# Altium footprint library CONN_HDR_2.54MM_ST_SMDE.PcbLib: 38 footprints (part 1 of 3)
Each footprint in its own frame and in the unit in brackets; x right, y up, seen from the top. Pads: shape width x height; smd on the part's side, far side on the other; paste and mask are expansions set on the pad; w line width, h text height; cw(c..) or ccw(c..) is an arc to the next point about the centre after c.
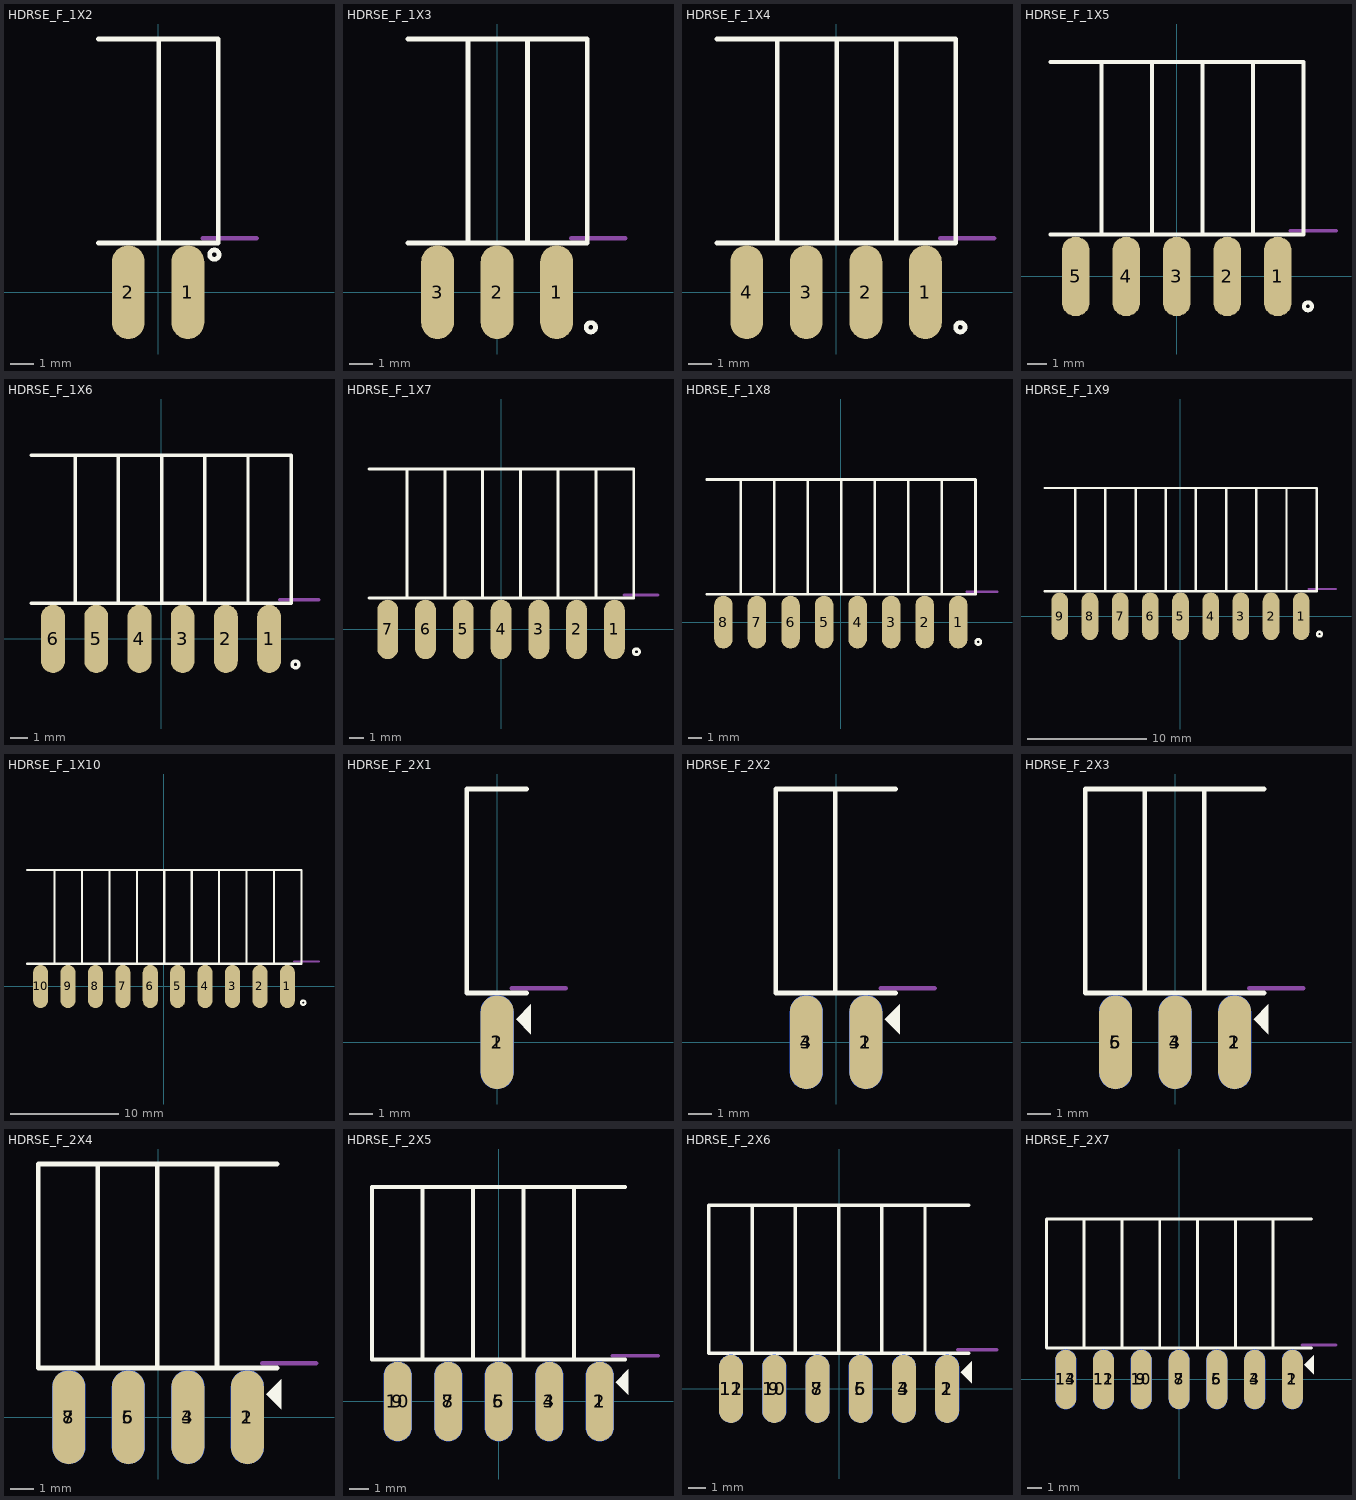
[diagram p0: the footprints below, top view; thin cyan lines are the x and y axes]

## HDRSE_F_1X2 [mm] "Connector; Header; 2 Position, SMD edge"
height 1.8
pads (2):
  oval 1.4x4 smd mask+0.1: 1(1.27,0) 2(-1.27,0)
TopOverlay:
  circle w0.2: c2.4,1.6 r0.2
  lines w0.2: -2.54,2.1 0.03,2.1 0.03,10.8 -2.54,10.8 ; 0,2.1 2.57,2.1 2.57,10.8 0,10.8
Mechanical1:
  lines w0.2: 1.9,2.3 4.2,2.3
  text "Edge of PCB" at 2.2,2.6 h0.4
3D body "PBS-1.stp": height 1.63, standoff -0.91, extent -2.54,-0.91 0,10.74
3D body "PBS-1.stp": height 1.63, standoff -0.91, extent 0,-0.91 2.54,10.74

## HDRSE_F_1X3 [mm] "Connector; Header; 3 Position"
pads (3):
  oval 1.4x4 smd mask+0.1: 1(2.54,0) 2(0,0) 3(-2.54,0)
TopOverlay:
  circle w0.2: c4,-1.5 r0.2
  lines w0.2: -3.81,2.1 -1.24,2.1 -1.24,10.8 -3.81,10.8 ; -1.27,2.1 1.3,2.1 1.3,10.8 -1.27,10.8 ; 1.27,2.1 3.84,2.1 3.84,10.8 1.27,10.8
Mechanical1:
  lines w0.2: 3.17,2.3 5.47,2.3
  text "Edge of PCB" at 3.5,2.5 h0.4
3D body "PBS-1.stp": height 1.63, standoff -0.91, extent -3.81,-0.91 -1.27,10.74
3D body "PBS-1.stp": height 1.63, standoff -0.91, extent -1.27,-0.91 1.27,10.74
3D body "PBS-1.stp": height 1.63, standoff -0.91, extent 1.27,-0.91 3.81,10.74

## HDRSE_F_1X4 [mm] "Connector; Header; 4 Position"
pads (4):
  oval 1.4x4 smd mask+0.1: 1(3.81,0) 2(1.27,0) 3(-1.27,0) 4(-3.81,0)
TopOverlay:
  circle w0.2: c5.3,-1.5 r0.2
  lines w0.2: -5.08,2.1 -2.51,2.1 -2.51,10.8 -5.08,10.8 ; -2.54,2.1 0.03,2.1 0.03,10.8 -2.54,10.8 ; 0,2.1 2.57,2.1 2.57,10.8 0,10.8 ; 2.54,2.1 5.11,2.1 5.11,10.8 2.54,10.8
Mechanical1:
  lines w0.2: 4.44,2.3 6.74,2.3
  text "Edge of PCB" at 4.6,2.6 h0.4
3D body "PBS-1.stp": height 1.63, standoff -0.91, extent -5.08,-0.91 -2.54,10.74
3D body "PBS-1.stp": height 1.63, standoff -0.91, extent -2.54,-0.91 0,10.74
3D body "PBS-1.stp": height 1.63, standoff -0.91, extent 0,-0.91 2.54,10.74
3D body "PBS-1.stp": height 1.63, standoff -0.91, extent 2.54,-0.91 5.08,10.74

## HDRSE_F_1X5 [mm] "Connector; Header; 5 Position"
pads (5):
  oval 1.4x4 smd mask+0.1: 1(5.08,0) 2(2.54,0) 3(0,0) 4(-2.54,0) 5(-5.08,0)
TopOverlay:
  circle w0.2: c6.6,-1.5 r0.2
  lines w0.2: -6.35,2.1 -3.78,2.1 -3.78,10.8 -6.35,10.8 ; -3.81,2.1 -1.24,2.1 -1.24,10.8 -3.81,10.8 ; -1.27,2.1 1.3,2.1 1.3,10.8 -1.27,10.8 ; 1.27,2.1 3.84,2.1 3.84,10.8 1.27,10.8 ; 3.81,2.1 6.38,2.1 6.38,10.8 3.81,10.8
Mechanical1:
  lines w0.2: 5.71,2.3 8.01,2.3
  text "Edge of PCB" at 5.9,2.6 h0.4
3D body "PBS-1.stp": height 1.63, standoff -0.91, extent 3.81,-0.91 6.35,10.74
3D body "PBS-1.stp": height 1.63, standoff -0.91, extent 1.27,-0.91 3.81,10.74
3D body "PBS-1.stp": height 1.63, standoff -0.91, extent -1.27,-0.91 1.27,10.74
3D body "PBS-1.stp": height 1.63, standoff -0.91, extent -3.81,-0.91 -1.27,10.74
3D body "PBS-1.stp": height 1.63, standoff -0.91, extent -6.35,-0.91 -3.81,10.74

## HDRSE_F_1X6 [mm] "Connector; Header; 6 Position"
pads (6):
  oval 1.4x4 smd mask+0.1: 1(6.35,0) 2(3.81,0) 3(1.27,0) 4(-1.27,0) 5(-3.81,0) 6(-6.35,0)
TopOverlay:
  circle w0.2: c7.9,-1.5 r0.2
  lines w0.2: -7.62,2.1 -5.05,2.1 -5.05,10.8 -7.62,10.8 ; -5.08,2.1 -2.51,2.1 -2.51,10.8 -5.08,10.8 ; -2.54,2.1 0.03,2.1 0.03,10.8 -2.54,10.8 ; 0,2.1 2.57,2.1 2.57,10.8 0,10.8 ; 2.54,2.1 5.11,2.1 5.11,10.8 2.54,10.8 ; 5.08,2.1 7.65,2.1 7.65,10.8 5.08,10.8
Mechanical1:
  lines w0.2: 6.98,2.3 9.28,2.3
  text "Edge of PCB" at 7.2,2.6 h0.4
3D body "PBS-1.stp": height 1.63, standoff -0.91, extent -7.62,-0.91 -5.08,10.74
3D body "PBS-1.stp": height 1.63, standoff -0.91, extent -5.08,-0.91 -2.54,10.74
3D body "PBS-1.stp": height 1.63, standoff -0.91, extent -2.54,-0.91 0,10.74
3D body "PBS-1.stp": height 1.63, standoff -0.91, extent 0,-0.91 2.54,10.74
3D body "PBS-1.stp": height 1.63, standoff -0.91, extent 2.54,-0.91 5.08,10.74
3D body "PBS-1.stp": height 1.63, standoff -0.91, extent 5.08,-0.91 7.62,10.74

## HDRSE_F_1X7 [mm] "Connector; Header; 7 Position"
pads (7):
  oval 1.4x4 smd mask+0.1: 1(7.62,0) 2(5.08,0) 3(2.54,0) 4(0,0) 5(-2.54,0) 6(-5.08,0) 7(-7.62,0)
TopOverlay:
  circle w0.2: c9.1,-1.5 r0.2
  lines w0.2: -8.89,2.1 -6.32,2.1 -6.32,10.8 -8.89,10.8 ; -6.35,2.1 -3.78,2.1 -3.78,10.8 -6.35,10.8 ; -3.81,2.1 -1.24,2.1 -1.24,10.8 -3.81,10.8 ; -1.27,2.1 1.3,2.1 1.3,10.8 -1.27,10.8 ; 1.27,2.1 3.84,2.1 3.84,10.8 1.27,10.8 ; 3.81,2.1 6.38,2.1 6.38,10.8 3.81,10.8 ; 6.35,2.1 8.92,2.1 8.92,10.8 6.35,10.8
Mechanical1:
  lines w0.2: 8.25,2.3 10.55,2.3
  text "Edge of PCB" at 8.5,2.6 h0.4
3D body "PBS-1.stp": height 1.63, standoff -0.91, extent -8.89,-0.91 -6.35,10.74
3D body "PBS-1.stp": height 1.63, standoff -0.91, extent -6.35,-0.91 -3.81,10.74
3D body "PBS-1.stp": height 1.63, standoff -0.91, extent -3.81,-0.91 -1.27,10.74
3D body "PBS-1.stp": height 1.63, standoff -0.91, extent -1.27,-0.91 1.27,10.74
3D body "PBS-1.stp": height 1.63, standoff -0.91, extent 1.27,-0.91 3.81,10.74
3D body "PBS-1.stp": height 1.63, standoff -0.91, extent 3.81,-0.91 6.35,10.74
3D body "PBS-1.stp": height 1.63, standoff -0.91, extent 6.35,-0.91 8.89,10.74

## HDRSE_F_1X8 [mm] "Connector; Header; 8 Position"
pads (8):
  oval 1.4x4 smd mask+0.1: 1(8.89,0) 2(6.35,0) 3(3.81,0) 4(1.27,0) 5(-1.27,0) 6(-3.81,0) 7(-6.35,0) 8(-8.89,0)
TopOverlay:
  circle w0.2: c10.4,-1.5 r0.2
  lines w0.2: -10.16,2.1 -7.59,2.1 -7.59,10.8 -10.16,10.8 ; -7.62,2.1 -5.05,2.1 -5.05,10.8 -7.62,10.8 ; -5.08,2.1 -2.51,2.1 -2.51,10.8 -5.08,10.8 ; -2.54,2.1 0.03,2.1 0.03,10.8 -2.54,10.8 ; 0,2.1 2.57,2.1 2.57,10.8 0,10.8 ; 2.54,2.1 5.11,2.1 5.11,10.8 2.54,10.8 ; 5.08,2.1 7.65,2.1 7.65,10.8 5.08,10.8 ; 7.62,2.1 10.19,2.1 10.19,10.8 7.62,10.8
Mechanical1:
  lines w0.2: 9.52,2.3 11.82,2.3
  text "Edge of PCB" at 9.7,2.6 h0.4
3D body "PBS-1.stp": height 1.63, standoff -0.91, extent 7.62,-0.91 10.16,10.74
3D body "PBS-1.stp": height 1.63, standoff -0.91, extent 5.08,-0.91 7.62,10.74
3D body "PBS-1.stp": height 1.63, standoff -0.91, extent 2.54,-0.91 5.08,10.74
3D body "PBS-1.stp": height 1.63, standoff -0.91, extent 0,-0.91 2.54,10.74
3D body "PBS-1.stp": height 1.63, standoff -0.91, extent -2.54,-0.91 0,10.74
3D body "PBS-1.stp": height 1.63, standoff -0.91, extent -5.08,-0.91 -2.54,10.74
3D body "PBS-1.stp": height 1.63, standoff -0.91, extent -7.62,-0.91 -5.08,10.74
3D body "PBS-1.stp": height 1.63, standoff -0.91, extent -10.16,-0.91 -7.62,10.74

## HDRSE_F_1X9 [mm] "Connector; Header; 9 Position"
pads (9):
  oval 1.4x4 smd mask+0.1: 1(10.16,0) 2(7.62,0) 3(5.08,0) 4(2.54,0) 5(0,0) 6(-2.54,0) 7(-5.08,0) 8(-7.62,0) 9(-10.16,0)
TopOverlay:
  circle w0.2: c11.7,-1.5 r0.2
  lines w0.2: -11.43,2.1 -8.86,2.1 -8.86,10.8 -11.43,10.8 ; -8.89,2.1 -6.32,2.1 -6.32,10.8 -8.89,10.8 ; -6.35,2.1 -3.78,2.1 -3.78,10.8 -6.35,10.8 ; -3.81,2.1 -1.24,2.1 -1.24,10.8 -3.81,10.8 ; -1.27,2.1 1.3,2.1 1.3,10.8 -1.27,10.8 ; 1.27,2.1 3.84,2.1 3.84,10.8 1.27,10.8 ; 3.81,2.1 6.38,2.1 6.38,10.8 3.81,10.8 ; 6.35,2.1 8.92,2.1 8.92,10.8 6.35,10.8 ; 8.89,2.1 11.46,2.1 11.46,10.8 8.89,10.8
Mechanical1:
  lines w0.2: 10.79,2.3 13.09,2.3
  text "Edge of PCB" at 11.1,2.6 h0.4
3D body "PBS-1.stp": height 1.63, standoff -0.91, extent -11.43,-0.91 -8.89,10.74
3D body "PBS-1.stp": height 1.63, standoff -0.91, extent -8.89,-0.91 -6.35,10.74
3D body "PBS-1.stp": height 1.63, standoff -0.91, extent -6.35,-0.91 -3.81,10.74
3D body "PBS-1.stp": height 1.63, standoff -0.91, extent -3.81,-0.91 -1.27,10.74
3D body "PBS-1.stp": height 1.63, standoff -0.91, extent -1.27,-0.91 1.27,10.74
3D body "PBS-1.stp": height 1.63, standoff -0.91, extent 1.27,-0.91 3.81,10.74
3D body "PBS-1.stp": height 1.63, standoff -0.91, extent 3.81,-0.91 6.35,10.74
3D body "PBS-1.stp": height 1.63, standoff -0.91, extent 6.35,-0.91 8.89,10.74
3D body "PBS-1.stp": height 1.63, standoff -0.91, extent 8.89,-0.91 11.43,10.74

## HDRSE_F_1X10 [mm] "Connector; Header; 10 Position"
pads (10):
  oval 1.4x4 smd mask+0.1: 1(11.43,0) 2(8.89,0) 3(6.35,0) 4(3.81,0) 5(1.27,0) 6(-1.27,0) 7(-3.81,0) 8(-6.35,0) 9(-8.89,0) 10(-11.43,0)
TopOverlay:
  circle w0.2: c12.9,-1.5 r0.2
  lines w0.2: -12.7,2.1 -10.13,2.1 -10.13,10.8 -12.7,10.8 ; -10.16,2.1 -7.59,2.1 -7.59,10.8 -10.16,10.8 ; -7.62,2.1 -5.05,2.1 -5.05,10.8 -7.62,10.8 ; -5.08,2.1 -2.51,2.1 -2.51,10.8 -5.08,10.8 ; -2.54,2.1 0.03,2.1 0.03,10.8 -2.54,10.8 ; 0,2.1 2.57,2.1 2.57,10.8 0,10.8 ; 2.54,2.1 5.11,2.1 5.11,10.8 2.54,10.8 ; 5.08,2.1 7.65,2.1 7.65,10.8 5.08,10.8 ; 7.62,2.1 10.19,2.1 10.19,10.8 7.62,10.8 ; 10.16,2.1 12.73,2.1 12.73,10.8 10.16,10.8
Mechanical1:
  lines w0.2: 12.06,2.3 14.36,2.3
  text "Edge of PCB" at 12.3,2.6 h0.4
3D body "PBS-1.stp": height 1.63, standoff -0.91, extent 10.16,-0.91 12.7,10.74
3D body "PBS-1.stp": height 1.63, standoff -0.91, extent 7.62,-0.91 10.16,10.74
3D body "PBS-1.stp": height 1.63, standoff -0.91, extent 5.08,-0.91 7.62,10.74
3D body "PBS-1.stp": height 1.63, standoff -0.91, extent 2.54,-0.91 5.08,10.74
3D body "PBS-1.stp": height 1.63, standoff -0.91, extent 0,-0.91 2.54,10.74
3D body "PBS-1.stp": height 1.63, standoff -0.91, extent -2.54,-0.91 0,10.74
3D body "PBS-1.stp": height 1.63, standoff -0.91, extent -5.08,-0.91 -2.54,10.74
3D body "PBS-1.stp": height 1.63, standoff -0.91, extent -7.62,-0.91 -5.08,10.74
3D body "PBS-1.stp": height 1.63, standoff -0.91, extent -10.16,-0.91 -7.62,10.74
3D body "PBS-1.stp": height 1.63, standoff -0.91, extent -12.7,-0.91 -10.16,10.74

## HDRSE_F_2X1 [mm] "Connector; Header; 2x1 Position"
pads (2):
  oval 1.4x4 smd: 1(0,0)
  oval 1.4x4 smd far side mask+0.1: 2(0,0)
TopOverlay:
  region: 1.443,0.342 0.807,0.979 1.443,1.615
  lines w0.2: 1.27,2.1 -1.3,2.1 -1.3,10.8 1.27,10.8
Mechanical1:
  lines w0.2: 0.63,2.3 2.93,2.3
  text "Edge of PCB" at 0.73,2.6 h0.4
3D body "female_header_a-bl254-eg-g02d.stp": height 2.67, standoff -2.67, extent -1.2,-1 1.3,10.7

## HDRSE_F_2X2 [mm] "Connector; Header; 2x2 Position"
pads (4):
  oval 1.4x4 smd: 1(1.27,0)
  oval 1.4x4 smd far side mask+0.1: 2(1.27,0) 4(-1.27,0)
  oval 1.4x4 smd mask+0.1: 3(-1.27,0)
TopOverlay:
  region: 2.713,0.342 2.077,0.979 2.713,1.615
  lines w0.2: 0,2.1 -2.57,2.1 -2.57,10.8 0,10.8 ; 2.54,2.1 -0.03,2.1 -0.03,10.8 2.54,10.8
Mechanical1:
  lines w0.2: 1.9,2.3 4.2,2.3
  text "Edge of PCB" at 2,2.6 h0.4
3D body "female_header_a-bl254-eg-g02d.stp": height 2.67, standoff -2.67, extent 0.07,-1 2.57,10.7
3D body "female_header_a-bl254-eg-g02d.stp": height 2.67, standoff -2.67, extent -2.47,-1 0.03,10.7

## HDRSE_F_2X3 [mm] "Connector; Header; 3x2 Position"
pads (6):
  oval 1.4x4 smd mask+0.1: 1(2.54,0) 3(0,0) 5(-2.54,0)
  oval 1.4x4 smd far side mask+0.1: 2(2.54,0) 4(0,0) 6(-2.54,0)
TopOverlay:
  region: 3.983,0.342 3.347,0.979 3.983,1.615
  lines w0.2: -1.27,2.1 -3.84,2.1 -3.84,10.8 -1.27,10.8 ; 1.27,2.1 -1.3,2.1 -1.3,10.8 1.27,10.8 ; 3.81,2.1 1.24,2.1 1.24,10.8 3.81,10.8
Mechanical1:
  lines w0.2: 3.17,2.3 5.47,2.3
  text "Edge of PCB" at 2.63,2.6 h0.4
3D body "female_header_a-bl254-eg-g02d.stp": height 2.67, standoff -2.67, extent 1.34,-1 3.84,10.7
3D body "female_header_a-bl254-eg-g02d.stp": height 2.67, standoff -2.67, extent -1.2,-1 1.3,10.7
3D body "female_header_a-bl254-eg-g02d.stp": height 2.67, standoff -2.67, extent -3.74,-1 -1.24,10.7

## HDRSE_F_2X4 [mm] "Male Header 2X04 with 2.54 mm Pitch"
pads (8):
  oval 1.4x4 smd mask+0.1: 1(3.81,0) 3(1.27,0) 5(-1.27,0) 7(-3.81,0)
  oval 1.4x4 smd far side mask+0.1: 2(3.81,0) 4(1.27,0) 6(-1.27,0) 8(-3.81,0)
TopOverlay:
  region: 5.253,0.342 4.617,0.979 5.253,1.615
  lines w0.2: -2.54,2.1 -5.11,2.1 -5.11,10.8 -2.54,10.8 ; 0,2.1 -2.57,2.1 -2.57,10.8 0,10.8 ; 2.54,2.1 -0.03,2.1 -0.03,10.8 2.54,10.8 ; 5.08,2.1 2.51,2.1 2.51,10.8 5.08,10.8
Mechanical1:
  lines w0.2: 4.44,2.3 6.74,2.3
  text "Edge of PCB" at 4.4,2.6 h0.4
3D body "female_header_a-bl254-eg-g02d.stp": height 2.67, standoff -2.67, extent 2.61,-1 5.11,10.7
3D body "female_header_a-bl254-eg-g02d.stp": height 2.67, standoff -2.67, extent 0.07,-1 2.57,10.7
3D body "female_header_a-bl254-eg-g02d.stp": height 2.67, standoff -2.67, extent -2.47,-1 0.03,10.7
3D body "female_header_a-bl254-eg-g02d.stp": height 2.67, standoff -2.67, extent -5.01,-1 -2.51,10.7

## HDRSE_F_2X5 [mm] "Male Header 2X05 with 2.54 mm Pitch"
pads (10):
  oval 1.4x4 smd: 1(5.08,0) 3(2.54,0) 5(0,0) 7(-2.54,0) 9(-5.08,0)
  oval 1.4x4 smd far side: 2(5.08,0) 4(2.54,0) 6(0,0) 8(-2.54,0) 10(-5.08,0)
TopOverlay:
  region: 6.523,0.342 5.887,0.979 6.523,1.615
  lines w0.2: -3.81,2.1 -6.38,2.1 -6.38,10.8 -3.81,10.8 ; -1.27,2.1 -3.84,2.1 -3.84,10.8 -1.27,10.8 ; 1.27,2.1 -1.3,2.1 -1.3,10.8 1.27,10.8 ; 3.81,2.1 1.24,2.1 1.24,10.8 3.81,10.8 ; 6.35,2.1 3.78,2.1 3.78,10.8 6.35,10.8
Mechanical1:
  lines w0.2: 5.71,2.3 8.01,2.3
  text "Edge of PCB" at 5.8,2.6 h0.4
3D body "female_header_a-bl254-eg-g02d.stp": height 2.67, standoff -2.67, extent -6.28,-1 -3.78,10.7
3D body "female_header_a-bl254-eg-g02d.stp": height 2.67, standoff -2.67, extent -3.74,-1 -1.24,10.7
3D body "female_header_a-bl254-eg-g02d.stp": height 2.67, standoff -2.67, extent -1.2,-1 1.3,10.7
3D body "female_header_a-bl254-eg-g02d.stp": height 2.67, standoff -2.67, extent 1.34,-1 3.84,10.7
3D body "female_header_a-bl254-eg-g02d.stp": height 2.67, standoff -2.67, extent 3.88,-1 6.38,10.7

## HDRSE_F_2X6 [mm] "Male Header 2X06 with 2.54 mm Pitch"
pads (12):
  oval 1.4x4 smd: 1(6.35,0) 3(3.81,0) 5(1.27,0) 7(-1.27,0) 9(-3.81,0) 11(-6.35,0)
  oval 1.4x4 smd far side: 2(6.35,0) 4(3.81,0) 6(1.27,0) 8(-1.27,0) 10(-3.81,0) 12(-6.35,0)
TopOverlay:
  region: 7.793,0.342 7.157,0.979 7.793,1.615
  lines w0.2: -5.08,2.1 -7.65,2.1 -7.65,10.8 -5.08,10.8 ; -2.54,2.1 -5.11,2.1 -5.11,10.8 -2.54,10.8 ; 0,2.1 -2.57,2.1 -2.57,10.8 0,10.8 ; 2.54,2.1 -0.03,2.1 -0.03,10.8 2.54,10.8 ; 5.08,2.1 2.51,2.1 2.51,10.8 5.08,10.8 ; 7.62,2.1 5.05,2.1 5.05,10.8 7.62,10.8
Mechanical1:
  lines w0.2: 6.98,2.3 9.28,2.3
  text "Edge of PCB" at 7.1,2.6 h0.4
3D body "female_header_a-bl254-eg-g02d.stp": height 2.67, standoff -2.67, extent -7.55,-1 -5.05,10.7
3D body "female_header_a-bl254-eg-g02d.stp": height 2.67, standoff -2.67, extent -5.01,-1 -2.51,10.7
3D body "female_header_a-bl254-eg-g02d.stp": height 2.67, standoff -2.67, extent -2.47,-1 0.03,10.7
3D body "female_header_a-bl254-eg-g02d.stp": height 2.67, standoff -2.67, extent 0.07,-1 2.57,10.7
3D body "female_header_a-bl254-eg-g02d.stp": height 2.67, standoff -2.67, extent 2.61,-1 5.11,10.7
3D body "female_header_a-bl254-eg-g02d.stp": height 2.67, standoff -2.67, extent 5.15,-1 7.65,10.7

## HDRSE_F_2X7 [mm] "Male Header 2X07 with 2.54 mm Pitch"
pads (14):
  oval 1.4x4 smd mask+0.1: 1(7.62,0) 3(5.08,0) 5(2.54,0) 7(0,0) 9(-2.54,0) 11(-5.08,0) 13(-7.62,0)
  oval 1.4x4 smd far side mask+0.1: 2(7.62,0) 4(5.08,0) 6(2.54,0) 8(0,0) 10(-2.54,0) 12(-5.08,0) 14(-7.62,0)
TopOverlay:
  region: 9.063,0.342 8.427,0.979 9.063,1.615
  lines w0.2: -6.35,2.1 -8.92,2.1 -8.92,10.8 -6.35,10.8 ; -3.81,2.1 -6.38,2.1 -6.38,10.8 -3.81,10.8 ; -1.27,2.1 -3.84,2.1 -3.84,10.8 -1.27,10.8 ; 1.27,2.1 -1.3,2.1 -1.3,10.8 1.27,10.8 ; 3.81,2.1 1.24,2.1 1.24,10.8 3.81,10.8 ; 6.35,2.1 3.78,2.1 3.78,10.8 6.35,10.8 ; 8.89,2.1 6.32,2.1 6.32,10.8 8.89,10.8
Mechanical1:
  lines w0.2: 8.25,2.3 10.55,2.3
  text "Edge of PCB" at 8.4,2.6 h0.4
3D body "female_header_a-bl254-eg-g02d.stp": height 2.67, standoff -2.67, extent -8.82,-1 -6.32,10.7
3D body "female_header_a-bl254-eg-g02d.stp": height 2.67, standoff -2.67, extent -6.28,-1 -3.78,10.7
3D body "female_header_a-bl254-eg-g02d.stp": height 2.67, standoff -2.67, extent -3.74,-1 -1.24,10.7
3D body "female_header_a-bl254-eg-g02d.stp": height 2.67, standoff -2.67, extent -1.2,-1 1.3,10.7
3D body "female_header_a-bl254-eg-g02d.stp": height 2.67, standoff -2.67, extent 1.34,-1 3.84,10.7
3D body "female_header_a-bl254-eg-g02d.stp": height 2.67, standoff -2.67, extent 3.88,-1 6.38,10.7
3D body "female_header_a-bl254-eg-g02d.stp": height 2.67, standoff -2.67, extent 6.42,-1 8.92,10.7